# Altium schematic symbol library type_c_GCT_USB4085-GF-A.SchLib: 2 symbols
Pins are listed as number, name and electrical type; pins without a type are passive.

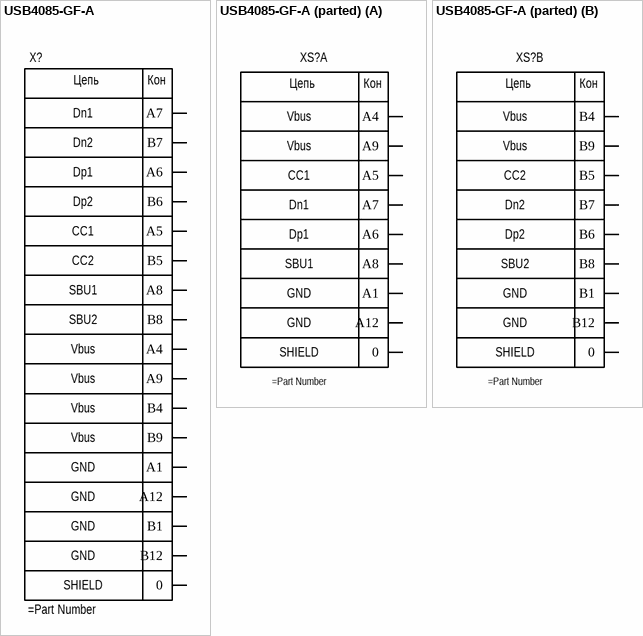
[diagram p0: symbols USB4085-GF-A to USB4085-GF-A (parted)]

## USB4085-GF-A
designator X?
pins: 0, A1, A4, A5, A6, A7, A8, A9, A12, B1, B4, B5, B6, B7, B8, B9, B12
text: Цепь; Кон; Dn1; Dn2; Dp1; Dp2; CC1; CC2; SBU1; SBU2; Vbus; GND; SHIELD

## USB4085-GF-A (parted)
designator XS?
part A pins: 0, A1, A4, A5, A6, A7, A8, A9, A12
part B pins: 0, B1, B4, B5, B6, B7, B8, B9, B12
part A text: Цепь; Кон; Vbus; CC1; Dn1; Dp1; SBU1; GND; SHIELD
part B text: Цепь; Кон; Vbus; CC2; Dn2; Dp2; SBU2; GND; SHIELD